# EAGLE library part IC/TBD62003APG (library MyParts)
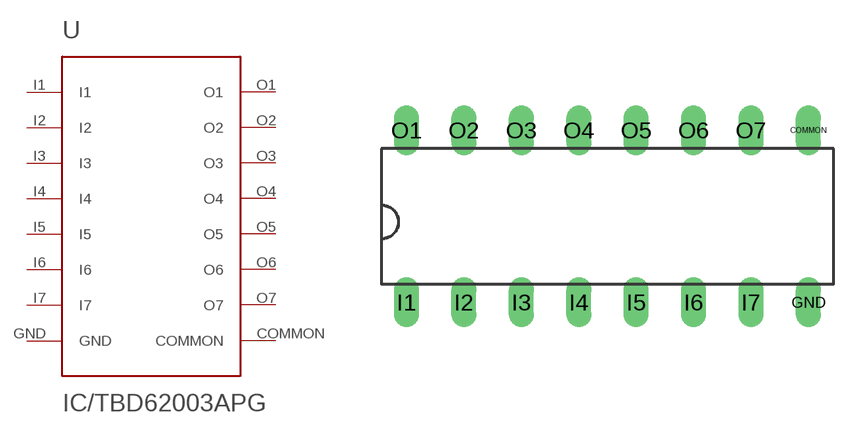
[diagram p4: symbol with the pads of TBD62003APG; footprint TBD62003APG]

Designator prefix -

## IC/TBD62003APG  [TBD62003APG]
COMMON  COMMON
GND  GND
I1  I1
I2  I2
I3  I3
I4  I4
I5  I5
I6  I6
I7  I7
O1  O1
O2  O2
O3  O3
O4  O4
O5  O5
O6  O6
O7  O7

## Footprint TBD62003APG (pad centres in mm)
drill 0.6 long: COMMON 9.09,3.71; GND 9.09,-3.91; I1 -8.69,-3.91; I2 -6.15,-3.91; I3 -3.61,-3.91; I4 -1.07,-3.91; I5 1.47,-3.91; I6 4.01,-3.91; I7 6.55,-3.91; O1 -8.69,3.71; O2 -6.15,3.71; O3 -3.61,3.71; O4 -1.07,3.71; O5 1.47,3.71; O6 4.01,3.71; O7 6.55,3.71